# Altium schematic symbol library WateringSystem_Library.SchLib: 61 symbols
Pins are listed as number, name and electrical type; pins without a type are passive.

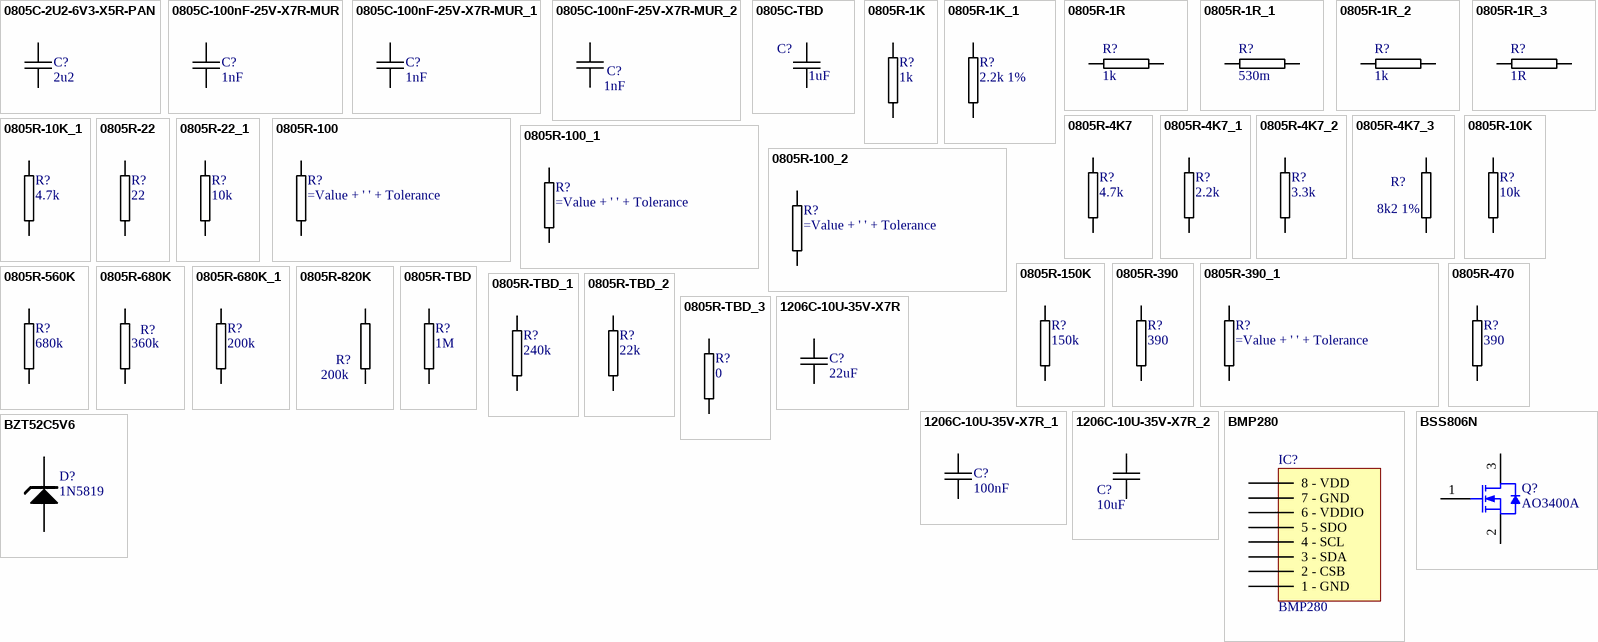
[diagram p0: symbols 0805C-2U2-6V3-X5R-PAN to BZT52C5V6]

## 0805C-2U2-6V3-X5R-PAN
designator C?, comment 2u2
CAPACITOR 0805 CERAMIC; Manufacturer Part Number: ECJ-1VB0J225K; Manufacturer: Panasonic - ECG; Reel: C7; Value: 2.2uF; Supplier 1: Digi-Key; Supplier Part Number 1: PCC2273TR-ND
footprint 0805C-GENERIC (CAPACITOR 0805)
footprint CAPC160X80X90L35N (Capacitor, Chip; 0603, 1.60 mm L X 0.80 mm W X 0.90 mm H body)
footprint CAPC200X125X100L40N (0805)
footprint CAPC320X160X50L40N (Capacitor, Chip; 1206, 3.20 mm L X 1.60 mm W X 0.50 mm H body)
pins: 1, 2

## 0805C-100nF-25V-X7R-MUR
designator C?, comment 1nF
CAPACITOR 0805 CERAMIC; Supplier 1: Digi-Key; Supplier Part Number 1: 490-1673-1-ND; Value: 1nF
footprint 0805C-TBD (CAPACITOR 0805)
pins: 1, 2

## 0805C-100nF-25V-X7R-MUR_1
designator C?, comment 1nF
CAPACITOR 0805 CERAMIC; Supplier 1: Digi-Key; Supplier Part Number 1: 490-1673-1-ND; Value: 1nF
footprint 0805C-TBD (CAPACITOR 0805)
pins: 1, 2

## 0805C-100nF-25V-X7R-MUR_2
designator C?, comment 1nF
CAPACITOR 0805 CERAMIC; Supplier 1: Digi-Key; Supplier Part Number 1: 490-1673-1-ND; Value: 1nF
footprint 0805C-TBD (CAPACITOR 0805)
footprint CAPC320X160X50L40N (Capacitor, Chip; 3.20 mm L X 1.60 mm W X 0.50 mm H body)
footprint CAPC200X125X100L40N (Capacitor, Chip; 2.00 mm L X 1.25 mm W X 1.00 mm H body)
footprint CAPC200X125X100L40N (Capacitor, Chip; 2.00 mm L X 1.25 mm W X 1.00 mm H body)
pins: 1, 2

## 0805C-TBD
designator C?, comment 1uF
CAPACITOR 0805 CERAMIC VALUE TO BE DETERMINED; Value: 1uF
footprint 0805C-TBD (CAPACITOR 0805)
pins: 1, 2

## 0805R-1K
designator R?, comment 1k
RESISTOR 0805 1/4 WATT THIN FILM; Reel: *; Part Number: *; Value: 1k
footprint 0805R-1K (RESISTOR 0805)
pins: 1, 2

## 0805R-1K_1
designator R?, comment 2.2k 1%
RESISTOR 0805 1/4 WATT THIN FILM; Reel: *; Value: 2.2k; Tolerance: 1%
footprint 0805R-1K (RESISTOR 0805)
pins: 1, 2

## 0805R-1R
designator R?, comment 1k
0 vagy talan 1K? RESISTOR 0805 1/3 WATT; REEL: R84; Supplier 1: Digi-Key; Supplier Part Number 1: 541-1.0TADKR-ND; Value: 1k
footprint 0805R-GENERIC (RESISTOR 0805)
footprint 1206FB-50Z (FERRITE BEAD 1206)
pins: 1, 2

## 0805R-1R_1
designator R?, comment 530m
RESISTOR 0805 1/3 WATT; REEL: R84; Supplier 1: Digi-Key; Supplier Part Number 1: 541-1.0TADKR-ND; Value: 530m
footprint 0805R-GENERIC (RESISTOR 0805)
footprint 1206FB-50Z (FERRITE BEAD 1206)
pins: 1, 2

## 0805R-1R_2
designator R?, comment 1k
RESISTOR 0805 1/3 WATT; REEL: R84; Supplier 1: Digi-Key; Supplier Part Number 1: 541-1.0TADKR-ND; Part Number: *; Value: 1k
footprint 0805R-GENERIC (RESISTOR 0805)
footprint 1206FB-50Z (FERRITE BEAD 1206)
pins: 1, 2

## 0805R-1R_3
designator R?, comment 1R
RESISTOR 0805 1/3 WATT; REEL: R84; Value: 1; Supplier 1: Digi-Key; Supplier Part Number 1: 541-1.0TADKR-ND
footprint 0805R-GENERIC (RESISTOR 0805)
footprint 1206FB-50Z (FERRITE BEAD 1206)
pins: 1, 2

## 0805R-4K7
designator R?, comment 4.7k
RESISTOR 0805 1/4 WATT THIN FILM; Assembly: No; Reel: *; Value: 4.7k
footprint 0805R-4K7 (RESISTOR 0805)
pins: 1, 2

## 0805R-4K7_1
designator R?, comment 2.2k
RESISTOR 0805 1/4 WATT THIN FILM; Assembly: No; Reel: *; Value: 2.2k
footprint 0805R-4K7 (RESISTOR 0805)
pins: 1, 2

## 0805R-4K7_2
designator R?, comment 3.3k
RESISTOR 0805 1/4 WATT THIN FILM; Assembly: No; Reel: *; Value: 3.3k
footprint 0805R-4K7 (RESISTOR 0805)
pins: 1, 2

## 0805R-4K7_3
designator R?, comment 8k2 1%
RESISTOR 0805 1/4 WATT THIN FILM; Reel: *; Value: 8k2; Tolerance: 1%
footprint 0805R-4K7 (RESISTOR 0805)
pins: 1, 2

## 0805R-10K
designator R?, comment 10k
RESISTOR 0805 1/4 WATT THIN FILM; Reel: *; Value: 10k
footprint 0805R-10K (RESISTOR 0805)
footprint 1206C-GENERIC
pins: 1, 2

## 0805R-10K_1
designator R?, comment 4.7k
RESISTOR 0805 1/4 WATT THIN FILM; Reel: *; Value: 4.7k
footprint 0805R-10K (RESISTOR 0805)
pins: 1, 2

## 0805R-22
designator R?, comment 22
RESISTOR 0805 1/4 WATT THIN FILM; Reel: *; Value: 22
footprint 0805R-22 (RESISTOR 0805)
pins: 1, 2

## 0805R-22_1
designator R?, comment 10k
RESISTOR 0805 1/4 WATT THIN FILM; Reel: *; Value: 10k
footprint 0805R-22 (RESISTOR 0805)
pins: 1, 2

## 0805R-100
designator R?
RESISTOR 0805 1/4 WATT THIN FILM; Value: 100k; Reel: *; Part Number: *
footprint 0805R-100 (RESISTOR 0805)
pins: 1, 2

## 0805R-100_1
designator R?
RESISTOR 0805 1/4 WATT THIN FILM; Value: 510k; Reel: *
footprint 0805R-100 (RESISTOR 0805)
pins: 1, 2

## 0805R-100_2
designator R?
RESISTOR 0805 1/4 WATT THIN FILM; Value: 220k; Reel: *
footprint 0805R-100 (RESISTOR 0805)
pins: 1, 2

## 0805R-150K
designator R?, comment 150k
RESISTOR 0805 1/4 WATT THIN FILM; Reel: *; Value: 150k
footprint 0805R-150K (RESISTOR 0805)
pins: 1, 2

## 0805R-390
designator R?, comment 390
RESISTOR 0805 1/4 WATT THIN FILM; Reel: *; Value: 390
footprint 0805R-390 (RESISTOR 0805)
pins: 1, 2

## 0805R-390_1
designator R?
RESISTOR 0805 1/4 WATT THIN FILM; Value: 390; Reel: *
footprint 0805R-390 (RESISTOR 0805)
pins: 1, 2

## 0805R-470
designator R?, comment 390
RESISTOR 0805 1/4 WATT THIN FILM; Reel: *; Value: 390
footprint 0805R-470 (RESISTOR 0805)
pins: 1, 2

## 0805R-560K
designator R?, comment 680k
RESISTOR 0805 1/4 WATT THIN FILM; Reel: *; Value: 680k
footprint 0805R-560K (RESISTOR 0805)
pins: 1, 2

## 0805R-680K
designator R?, comment 360k
RESISTOR 0805 1/4 WATT THIN FILM; Reel: *; Value: 360k
footprint 0805R-680K (RESISTOR 0805)
pins: 1, 2

## 0805R-680K_1
designator R?, comment 200k
RESISTOR 0805 1/4 WATT THIN FILM; Reel: *; Value: 200k
footprint 0805R-680K (RESISTOR 0805)
pins: 1, 2

## 0805R-820K
designator R?, comment 200k
RESISTOR 0805 1/4 WATT THIN FILM; Reel: *; Value: 200k
footprint 0805R-820K (RESISTOR 0805)
pins: 1, 2

## 0805R-TBD
designator R?, comment 1M
RESISTOR 0805 VALUE TO BE DETERMINED; Alternative: 931k; Value: 1M
footprint 0805R-TBD (RESISTOR 0805 VALUE TO BE DETERMINED)
footprint RESC160X80X90L30N (Resistor, Chip; 1.60 mm L X 0.80 mm W X 0.90 mm H body)
pins: 1, 2

## 0805R-TBD_1
designator R?, comment 240k
RESISTOR 0805 VALUE TO BE DETERMINED; Alternative: 237k; Value: 240k
footprint 0805R-TBD (RESISTOR 0805 VALUE TO BE DETERMINED)
pins: 1, 2

## 0805R-TBD_2
designator R?, comment 22k
RESISTOR 0805 VALUE TO BE DETERMINED; Value: 22k; Alternative: 22k
footprint 0805R-TBD (RESISTOR 0805 VALUE TO BE DETERMINED)
pins: 1, 2

## 0805R-TBD_3
designator R?, comment 0
RESISTOR 0805 VALUE TO BE DETERMINED; Assembly: No; Value: 0
footprint 0805R-TBD (RESISTOR 0805 VALUE TO BE DETERMINED)
pins: 1, 2

## 1206C-10U-35V-X7R
designator C?, comment 22uF
GENERIC CAPACITOR NON POLARISED 1206; Manufacturer Part Number: GMK316F106ZL-T; Manufacturer: Taiyo Yuden; Reel: C90; Supplier 1: Digi-Key; Supplier Part Number 1: 587-1352-2-ND; Value: 22uF
footprint 1206C-GENERIC
pins: 1, 2

## 1206C-10U-35V-X7R_1
designator C?, comment 100nF
GENERIC CAPACITOR NON POLARISED 1206; Manufacturer Part Number: GMK316F106ZL-T; Manufacturer: Taiyo Yuden; Reel: C90; Supplier 1: Digi-Key; Supplier Part Number 1: 587-1352-2-ND; Value: 100nF
footprint 1206C-GENERIC
pins: 1, 2

## 1206C-10U-35V-X7R_2
designator C?, comment 10uF
GENERIC CAPACITOR NON POLARISED 1206; Manufacturer Part Number: GMK316F106ZL-T; Manufacturer: Taiyo Yuden; Reel: C90; Supplier 1: Digi-Key; Supplier Part Number 1: 587-1352-2-ND; Value: 10uF
footprint 1206C-GENERIC
pins: 1, 2

## BMP280
designator IC?
Part Number: BMP280
footprint BMP280
pins: 1 1 - GND, 2 2 - CSB, 3 3 - SDA, 4 4 - SCL, 5 5 - SDO, 6 6 - VDDIO, 7 7 - GND, 8 8 - VDD

## BSS806N
designator Q?, comment AO3400A
N-Channel OptiMOS 2 Small-Signal-Transistor, 20 V VDS, 2.3 A ID, -55 to 150 degC, PG-SOT23, Reel, Green; Manufacturer: Infineon; PartNumber: IRLML6244; Green: TRUE; ID (max): 2.3 A; IDpuls (max): 9.3 A; Ptot (max): 0.5 W; QG: 1.7 nC; RDS (on) (max): 57 mOhm; RDS (on) (max) (@1.8V): 82 mOhm; RthJA (max): 250 K/W; VDS (max): 20 V; VGS(th) (max): 0.75 V; VGS(th) (min): 0.3 V; Alternatives: BSS806N, IRLML6244, IRLML6344; DatasheetVersion: Rev. 2.3; PackageVersion: Apr-08; PackageReference: PG-SOT23; PackageDescription: 3-Pin Small Outline Transistor Package, 2.9 x 1.3 mm Body, 0.95 mm Pitch; Halogen-free: TRUE; Packing: Reel; RDS (on) (max) (@2.5V): 57 mOhm; Mounting Technology: Surface Mount; ComponentLink1Description: Manufacturer URL; ComponentLink1URL: http://www.infineon.com/; ComponentLink2Description: Datasheet; ComponentLink2URL: http://www.infineon.com/dgdl/BSS806N_Rev2.3_.pdf?folderId=db3a3043156fd573011622e10b5c1f67&fileId=db3a304330f686060131185f0553451c; ComponentLink3Description: Package Specification; ComponentLink3URL: http://www.infineon.com/dgdl/SOT23-Package_Overview.pdf?folderId=db3a30431936bc4b0119532290053c66&fileId=db3a30431936bc4b0119533468123c85; Part Number: AO3400A
footprint INF-PG-SOT23_N (SOT23, 3-Leads, Body 2.9x1.3mm, Pitch 0.95mm, IPC Medium Density)
footprint INF-PG-SOT23_L (SOT23, 3-Leads, Body 2.9x1.3mm, Pitch 0.95mm, IPC High Density)
footprint INF-PG-SOT23_M (SOT23, 3-Leads, Body 2.9x1.3mm, Pitch 0.95mm, IPC Low Density)
pins: 1 GATE, 2 SOURCE, 3 DRAIN

## BZT52C5V6
designator D?, comment 1N5819
1N5819 SOD123; Supplier 1: Digi-Key; Supplier Part Number 1: BZT52C5V6-FDITR-ND; Part Number: 1N5819
footprint sod-123
pins: A, K

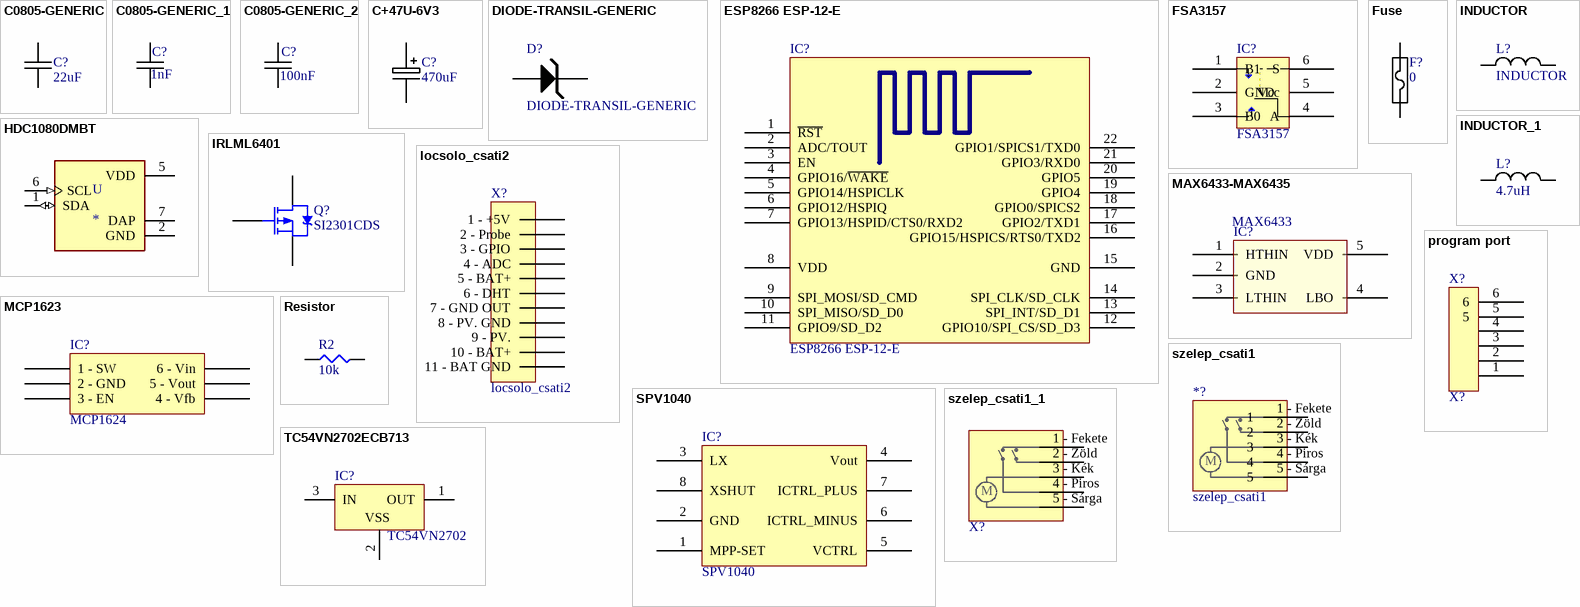
[diagram p1: symbols C0805-GENERIC to TC54VN2702ECB713]

## C0805-GENERIC
designator C?, comment 22uF
GENERIC CAPACITOR NON POLARISED0603; Assembly: No; Value: 22uF
footprint 0805C-GENERIC (CAPACITOR 0805)
pins: 1, 2

## C0805-GENERIC_1
designator C?, comment 1nF
100nF; Value: 1nF
footprint 0805C-GENERIC (CAPACITOR 0805)
pins: 1, 2

## C0805-GENERIC_2
designator C?, comment 100nF
Value: 100nF
footprint 0805C-GENERIC (CAPACITOR 0805)
pins: 1, 2

## C+47U-6V3
designator C?, comment 470uF
GENERIC CAPACITOR POLARISED; Supplier 1: Digi-Key; Supplier Part Number 1: PCE4375TR-ND; Value: 470uF
footprint PANACAP-C
footprint PANACAP-D-GENERIC
pins: +, -

## DIODE-TRANSIL-GENERIC
designator D?
GENERIC TRANSIL
footprint DIODE-SMB
footprint SOD523
pins: A, K

## ESP8266 ESP-12-E
designator IC?
footprint ESP8266 ESP-12-E
pins: 1 ~{RST} "Reset", 2 ADC/TOUT "ADC Input Or TOUT Output", 3 EN "Chip enable", 4 GPIO16/~{WAKE} "GPIO16 or Deep-Sleep Wakeup", 5 GPIO14/HSPICLK "GPIO14 or SPI CLK", 6 GPIO12/HSPIQ "GPIO12 or SPIQ", 7 GPIO13/HSPID/CTS0/RXD2 "GPIO13 or SPID", 8 VDD "Power supply", 9 SPI_MOSI/SD_CMD "GPIO14 or SPI CLK", 10 SPI_MISO/SD_D0 "GPIO12 or SPIQ", 11 GPIO9/SD_D2 "GPIO13 or SPID", 12 GPIO10/SPI_CS/SD_D3 "GPIO15 or SPICS", 13 SPI_INT/SD_D1 "GPIO2 or TX", 14 SPI_CLK/SD_CLK "GPIO0 or SPICS2", 15 GND "Power ground", 16 GPIO15/HSPICS/RTS0/TXD2 "GPIO15 or SPICS", 17 GPIO2/TXD1 "GPIO2 or TX", 18 GPIO0/SPICS2 "GPIO0 or SPICS2", 19 GPIO4 "GPIO5", 20 GPIO5 "GPIO4", 21 GPIO3/RXD0 "GPIO3 or UART RXD", 22 GPIO1/SPICS1/TXD0 "GPIO1 or UART TXD"

## FSA3157
designator IC?
Part Number: FSA3157
footprint SC70-6
pins: 1 B1, 2 GND, 3 B0, 4 A, 5 Vcc, 6 S

## Fuse
designator F?, comment 0
Alternative: 0
footprint Fuse_1206
pins: 1, 2

## HDC1080DMBT
designator U
Humidity Temperature Sensor 0 ~ 100% RH IÂ²C Â±2% RH 15s Surface Mount; MF: Texas Instruments; MP: HDC1080DMBT; Package: WDFN-6 Texas Instruments; Value: *; Price: None; Availability: Unavailable; SnapEDA_Link: https://www.snapeda.com/parts/HDC1080DMBT/Texas%20Instruments/view-part/472820/?ref=snap
footprint SON100P300X300X80-7N
pins: 1 SDA (io), 2 GND (power), 5 VDD (power), 6 SCL (in), 7 DAP (power)

## INDUCTOR
designator L?
Value: 10uH; LCSC Part #: C139506
footprint Inductor 6x6mm
footprint INDM730X660X300L160X290N (Inductor, Molded Body; 7.20 mm L X 6.60 mm W X 3.00 mm H body)
pins: 1, 2

## INDUCTOR_1
designator L?, comment 4.7uH
INDUCTOR; LCSC Part #: C1049; Value: 4.7uH
footprint INDM2520X190N (Inductor, molded body 2.5x2.0mm)
pins: 1, 2

## IRLML6401
designator Q?, comment SI2301CDS
HEXFET Power MOSFET; Alternatives: IRLML2244, IRLML2246, IRLML6401; Published: 17-Sep-2003; DatasheetVersion: 2-Jul-2001; PackageVersion: Jul-2001; PackageReference: Micro3; Publisher: Altium Limited; PackageDescription: 3-Pin SOT-23 Package 0.95 mm Pitch, 2.3 mm Lead Span; ComponentLink1Description: Manufacturer Link; ComponentLink1URL: http://www.irf.com/; ComponentLink2Description: Datasheet; ComponentLink2URL: http://www.irf.com/product-info/datasheets/data/IRLML6401.pdf; Part Number: SI2301CDS
footprint Micro3_N (SOT23, 3-Leads, Body 2.9x1.3mm, Pitch 0.95mm, Lead Span 2.3mm, IPC Medium Density)
footprint Micro3_L (SOT23, 3-Leads, Body 2.9x1.3mm, Pitch 0.95mm, Lead Span 2.3mm, IPC High Density)
footprint Micro3_M (SOT23, 3-Leads, Body 2.9x1.3mm, Pitch 0.95mm, Lead Span 2.3mm, IPC Low Density)
simulation model IRLML6401 (SUBCKT)
pins: 1 G, 2 S, 3 D

## locsolo_csati2
designator X?
footprint locsolo_csati2
pins: 1 1 - +5V, 2 2 - Probe, 3 3 - GPIO, 4 4 - ADC, 5 5 - BAT+, 6 6 - DHT, 7 7 - GND OUT, 8 8 - PV. GND, 9 9 - PV., 10 10 - BAT+, 11 11 - BAT GND

## MAX6433-MAX6435
designator IC?, comment MAX6433
MAX6433-MAX6435; Part Number: MAX6433
footprint SOT23-5 (SOT-23/SC-74A; 5 Leads; Body 3 x 3 mm, inc. leads (LxW max))
pins: 1 HTHIN, 2 GND, 3 LTHIN, 4 LBO, 5 VDD

## MCP1623
designator IC?, comment MCP1624
Part Number: MCP1624
footprint SOT23-6
pins: 1 1 - SW, 2 2 - GND, 3 3 - EN, 4 4 - Vfb, 5 5 - Vout, 6 6 - Vin

## program port
designator X?, comment X?
footprint program port
pins: 1, 2, 3 2, 4, 5, 6

## Resistor
designator R2, comment 10k
Value: 10k; Part Number: *; LCSC Part #: *; Package: *
footprint RESC200X125X70L40N (Resistor, Chip; 2.00 mm L X 1.25 mm W X 0.70 mm H body)
footprint RESC160X80X90L30N (Resistor, Chip; 1.60 mm L X 0.80 mm W X 0.90 mm H body)
footprint RESC310X152X65L45N (Resistor, Chip; 1206, 3.10 mm L X 1.525 mm W X 0.65 mm H body)
pins: 1, 2

## SPV1040
designator IC?
Part Number: SPV1040
footprint SPV1040
pins: 1 MPP-SET, 2 GND, 3 LX, 4 Vout, 5 VCTRL, 6 ICTRL_MINUS, 7 ICTRL_PLUS, 8 XSHUT

## szelep_csati1
designator *?
footprint Szelep_csati
pins: 1 - Fekete 1, 2 - Zöld 2, 3 - Kék 3, 4 - Piros 4, 5 - Sárga 5
text: M

## szelep_csati1_1
designator X?, comment Component_1  (value not drawn)
footprint Szelep_csati
pins: 1 - Fekete 1, 2 - Zöld 2, 3 - Kék 3, 4 - Piros 4, 5 - Sárga 5
text: M

## TC54VN2702ECB713
designator IC?, comment TC54VN2702
1µA Voltage Detector, Open-Drain Output, 2.7V, 3-Pin SOT-23A, Industrial Temperature, Tape and Reel; Published: 29-Jan-2009; DatasheetVersion: revH, Dec-2007; PackageVersion: revBB, Aug-2009; PackageReference: SOT-23A-CB3; Publisher: Altium Limited; PackageDescription: 3-Lead Plastic Small Outline Transistor (CB) [SOT-23A]; Supplier 1: Digi-Key; Supplier Part Number 1: TC54VN2702ECB71TR-ND; Supplier 2: Digi-Key; Supplier Part Number 2: TC54VN2702ECB71CT-ND; Supplier 3: Digi-Key; Supplier Part Number 3: TC54VN2702ECB71DKR-ND; Supplier 4: Farnell; Supplier Part Number 4: 1292289; ComponentLink1Description: Datasheet; ComponentLink1URL: http://ww1.microchip.com/downloads/en/DeviceDoc/21434h.pdf; ComponentLink2Description: Packaging Specification; ComponentLink2URL: http://www.microchip.com/stellent/groups/techpub_sg/documents/packagingspec/en012702.pdf; ComponentLink3Description: Microchip.com Home; ComponentLink3URL: http://www.microchip.com/; Part Number: TC54VN2702
footprint SOT-23A-CB3_N (SOT346, 3-Leads, Body 2.9x1.5mm, Pitch 0.95mm, Lead Span 2.6mm, IPC Medium Density)
footprint SOT-23A-CB3_L (SOT346, 3-Leads, Body 2.9x1.5mm, Pitch 0.95mm, Lead Span 2.6mm, IPC High Density)
footprint SOT-23A-CB3_M (SOT346, 3-Leads, Body 2.9x1.5mm, Pitch 0.95mm, Lead Span 2.6mm, IPC Low Density)
pins: 1 OUT (power), 2 VSS (power), 3 IN (power)